# Altium schematic symbol library MOSFETIRF250.SchLib: 1 symbol
Pins are listed as number, name and electrical type; pins without a type are passive.

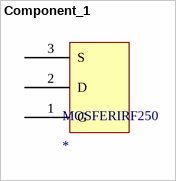
[diagram p0: symbol Component_1]

## Component_1
designator MOSFERIRF250
footprint mosfetIRF250
pins: 1 G, 2 D, 3 S